# Altium schematic symbol library BAV99.Schlib: 1 symbol
Pins are listed as number, name and electrical type; pins without a type are passive.

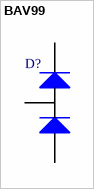
[diagram p0: symbol BAV99]

## BAV99
designator D?
pins: 1, 2, 3